# Altium footprint library RPI_B+_40Pin_Header.PcbLib: 5 footprints
Each footprint in its own frame and in the unit in brackets; x right, y up, seen from the top. Pads: shape width x height; smd on the part's side, far side on the other; paste and mask are expansions set on the pad; w line width, h text height; cw(c..) or ccw(c..) is an arc to the next point about the centre after c.
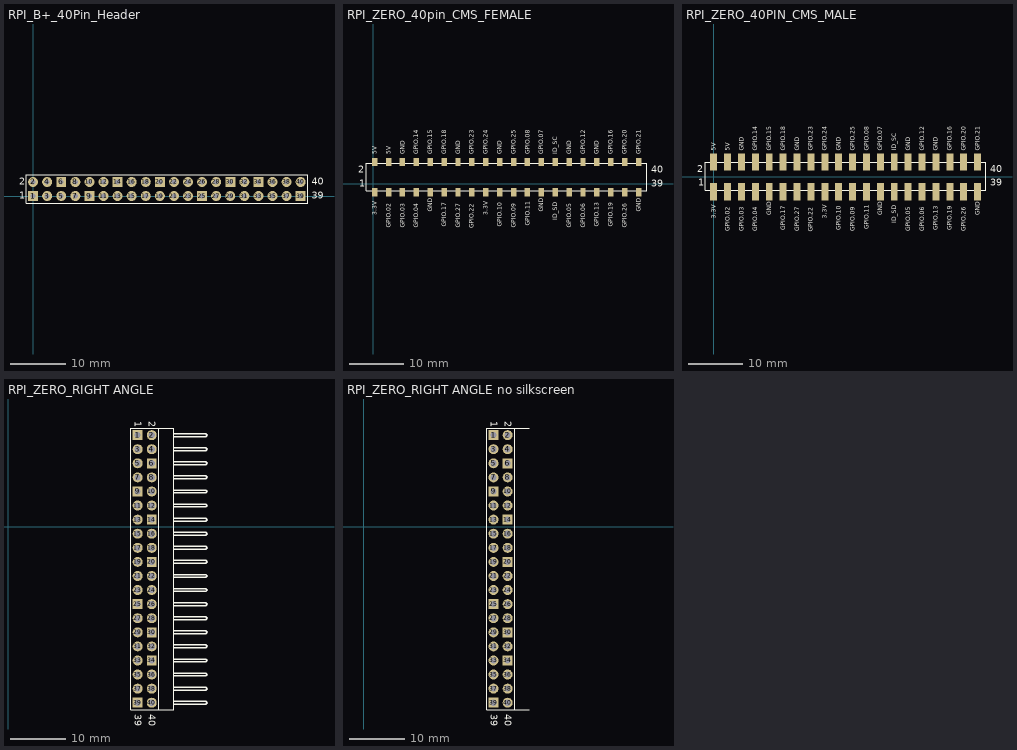
[diagram p0: the footprints below, top view; thin cyan lines are the x and y axes]

## RPI_B+_40Pin_Header [mm] "RPI_B+_40Pin_Header"
pads (40):
  rect 1.8x1.8 hole 0.9: 1(0,0) 6(5.08,2.54) 9(10.16,0) 14(15.24,2.54) 20(22.86,2.54) 25(30.48,0) 30(35.56,2.54) 34(40.64,2.54) 39(48.26,0)
  round 1.8 hole 0.9: 2(0,2.54) 3(2.54,0) 4(2.54,2.54) 5(5.08,0) 7(7.62,0) 8(7.62,2.54) 10(10.16,2.54) 11(12.7,0) 12(12.7,2.54) 13(15.24,0) 15(17.78,0) 16(17.78,2.54) 17(20.32,0) 18(20.32,2.54) 19(22.86,0) 21(25.4,0) 22(25.4,2.54) 23(27.94,0) 24(27.94,2.54) 26(30.48,2.54) 27(33.02,0) 28(33.02,2.54) 29(35.56,0) 31(38.1,0) 32(38.1,2.54) 33(40.64,0) 35(43.18,0) 36(43.18,2.54) 37(45.72,0) 38(45.72,2.54) 40(48.26,2.54)
Top Overlay:
  lines w0.2: -1.27,-1.27 -1.27,3.81 49.53,3.81 49.53,-1.27 -1.27,-1.27
  text "39" at 50.292,-0.508 h1.27
  text "40" at 50.292,2.032 h1.27
  text "2" at -2.54,2.032 h1.27
  text "1" at -2.54,-0.508 h1.27

## RPI_ZERO_40pin_CMS_FEMALE [mm]
pads (40):
  rect 1x1.51 smd: 1(0.254,-1.524) 2(0.254,3.986) 3(2.794,-1.524) 4(2.794,3.986) 5(5.334,-1.524) 6(5.334,3.986) 7(7.874,-1.524) 8(7.874,3.986) 9(10.414,-1.524) 10(10.414,3.986) 11(12.954,-1.524) 12(12.954,3.986) 13(15.494,-1.524) 14(15.494,3.986) 15(18.034,-1.524) 16(18.034,3.986) 17(20.574,-1.524) 18(20.574,3.986) 19(23.114,-1.524) 20(23.114,3.986) 21(25.654,-1.524) 22(25.654,3.986) 23(28.194,-1.524) 24(28.194,3.986) 25(30.734,-1.524) 26(30.734,3.986) 27(33.274,-1.524) 28(33.274,3.986) 29(35.814,-1.524) 30(35.814,3.986) 31(38.354,-1.524) 32(38.354,3.986) 33(40.894,-1.524) 34(40.894,3.986) 35(43.434,-1.524) 36(43.434,3.986) 37(45.974,-1.524) 38(45.974,3.986) 39(48.514,-1.524) 40(48.514,3.986)
Top Overlay:
  lines w0.2: 50.03,-1.27 -1.27,-1.27 -1.27,3.81 50.03,3.81 ; 50.038,-1.27 50.038,3.81
  text "1" at -2.54,-0.508 h1.27
  text "2" at -2.794,2.032 h1.27
  text "40" at 50.8,2.032 h1.27
  text "39" at 50.8,-0.508 h1.27
  text "GND" at 5.715,5.461 h0.8
  text "GND" at 15.875,5.461 h0.8
  text "GND" at 23.495,5.461 h0.8
  text "GND" at 36.195,5.461 h0.8
  text "GND" at 41.275,5.461 h0.8
  text "GND" at 31.115,-5.08 h0.8
  text "GND" at 48.895,-5.08 h0.8
  text "GND" at 10.795,-5.08 h0.8
  text "3.3V" at 0.635,-5.715 h0.8
  text "3.3V" at 20.955,-5.715 h0.8
  text "5V" at 0.635,5.461 h0.8
  text "5V" at 3.175,5.461 h0.8
  text "GPIO.14" at 8.255,5.461 h0.8
  text "GPIO.15" at 10.795,5.461 h0.8
  text "GPIO.18" at 13.335,5.461 h0.8
  text "GPIO.23" at 18.415,5.461 h0.8
  text "GPIO.24" at 20.955,5.461 h0.8
  text "GPIO.25" at 26.035,5.461 h0.8
  text "GPIO.08" at 28.575,5.461 h0.8
  text "GPIO.07" at 31.115,5.461 h0.8
  text "ID_SC" at 33.655,5.461 h0.8
  text "GPIO.12" at 38.735,5.461 h0.8
  text "GPIO.16" at 43.815,5.461 h0.8
  text "GPIO.20" at 46.355,5.461 h0.8
  text "GPIO.21" at 48.895,5.461 h0.8
  text "GPIO.02" at 3.175,-8.001 h0.8
  text "GPIO.03" at 5.715,-8.001 h0.8
  text "GPIO.04" at 8.255,-8.001 h0.8
  text "GPIO.17" at 13.335,-7.874 h0.8
  text "GPIO.27" at 15.875,-8.001 h0.8
  text "GPIO.22" at 18.415,-8.128 h0.8
  text "GPIO.10" at 23.495,-7.874 h0.8
  text "GPIO.09" at 26.035,-8.001 h0.8
  text "GPIO.11" at 28.575,-7.62 h0.8
  text "ID_SD" at 33.655,-6.604 h0.8
  text "GPIO.05" at 36.195,-8.001 h0.8
  text "GPIO.06" at 38.735,-8.001 h0.8
  text "GPIO.13" at 41.275,-7.874 h0.8
  text "GPIO.19" at 43.815,-7.874 h0.8
  text "GPIO.26" at 46.355,-8.001 h0.8

## RPI_ZERO_40PIN_CMS_MALE [mm]
pads (40):
  rect 1.27x3.18 smd: 1(0,-2.73) 2(0,2.73) 3(2.54,-2.73) 4(2.54,2.73) 5(5.08,-2.73) 6(5.08,2.73) 7(7.62,-2.73) 8(7.62,2.73) 9(10.16,-2.73) 10(10.16,2.73) 11(12.7,-2.73) 12(12.7,2.73) 13(15.24,-2.73) 14(15.24,2.73) 15(17.78,-2.73) 16(17.78,2.73) 17(20.32,-2.73) 18(20.32,2.73) 19(22.86,-2.73) 20(22.86,2.73) 21(25.4,-2.73) 22(25.4,2.73) 23(27.94,-2.73) 24(27.94,2.73) 25(30.48,-2.73) 26(30.48,2.73) 27(33.02,-2.73) 28(33.02,2.73) 29(35.56,-2.73) 30(35.56,2.73) 31(38.1,-2.73) 32(38.1,2.73) 33(40.64,-2.73) 34(40.64,2.73) 35(43.18,-2.73) 36(43.18,2.73) 37(45.72,-2.73) 38(45.72,2.73) 39(48.26,-2.73) 40(48.26,2.73)
Top Overlay:
  lines w0.2: 49.776,-2.413 -1.524,-2.413 -1.524,2.667 49.776,2.667 ; 49.784,-2.413 49.784,2.667
  text "GPIO.26" at 46.101,-9.906 h0.8
  text "GPIO.19" at 43.561,-9.779 h0.8
  text "GPIO.13" at 41.021,-9.779 h0.8
  text "GPIO.06" at 38.481,-9.906 h0.8
  text "GPIO.05" at 35.941,-9.906 h0.8
  text "ID_SD" at 33.401,-8.509 h0.8
  text "GPIO.11" at 28.321,-9.525 h0.8
  text "GPIO.09" at 25.781,-9.906 h0.8
  text "GPIO.10" at 23.241,-9.779 h0.8
  text "GPIO.22" at 18.161,-10.033 h0.8
  text "GPIO.27" at 15.621,-9.906 h0.8
  text "GPIO.17" at 13.081,-9.779 h0.8
  text "GPIO.04" at 8.001,-9.906 h0.8
  text "GPIO.03" at 5.461,-9.906 h0.8
  text "GPIO.02" at 2.921,-9.906 h0.8
  text "GPIO.21" at 48.641,4.826 h0.8
  text "GPIO.20" at 46.101,4.826 h0.8
  text "GPIO.16" at 43.561,4.826 h0.8
  text "GPIO.12" at 38.481,4.826 h0.8
  text "ID_SC" at 33.401,4.826 h0.8
  text "GPIO.07" at 30.861,4.826 h0.8
  text "GPIO.08" at 28.321,4.826 h0.8
  text "GPIO.25" at 25.781,4.826 h0.8
  text "GPIO.24" at 20.701,4.826 h0.8
  text "GPIO.23" at 18.161,4.826 h0.8
  text "GPIO.18" at 13.081,4.826 h0.8
  text "GPIO.15" at 10.541,4.826 h0.8
  text "GPIO.14" at 8.001,4.826 h0.8
  text "5V" at 2.921,4.826 h0.8
  text "5V" at 0.381,4.826 h0.8
  text "3.3V" at 20.701,-7.62 h0.8
  text "3.3V" at 0.381,-7.62 h0.8
  text "GND" at 10.541,-6.985 h0.8
  text "GND" at 48.641,-6.985 h0.8
  text "GND" at 30.861,-6.985 h0.8
  text "GND" at 41.021,4.826 h0.8
  text "GND" at 35.941,4.826 h0.8
  text "GND" at 23.241,4.826 h0.8
  text "GND" at 15.621,4.826 h0.8
  text "GND" at 5.461,4.826 h0.8
  text "39" at 50.546,-1.651 h1.27
  text "40" at 50.546,0.889 h1.27
  text "2" at -3.048,0.889 h1.27
  text "1" at -2.794,-1.651 h1.27

## RPI_ZERO_RIGHT ANGLE [mm]
pads (40):
  rect 1.8x1.8 hole 1.1: 1(23.368,16.51) 6(25.908,11.43) 9(23.368,6.35) 14(25.908,1.27) 20(25.908,-6.35) 25(23.368,-13.97) 30(25.908,-19.05) 34(25.908,-24.13) 39(23.368,-31.75)
  round 1.8 hole 1.1: 2(25.908,16.51) 3(23.368,13.97) 4(25.908,13.97) 5(23.368,11.43) 7(23.368,8.89) 8(25.908,8.89) 10(25.908,6.35) 11(23.368,3.81) 12(25.908,3.81) 13(23.368,1.27) 15(23.368,-1.27) 16(25.908,-1.27) 17(23.368,-3.81) 18(25.908,-3.81) 19(23.368,-6.35) 21(23.368,-8.89) 22(25.908,-8.89) 23(23.368,-11.43) 24(25.908,-11.43) 26(25.908,-13.97) 27(23.368,-16.51) 28(25.908,-16.51) 29(23.368,-19.05) 31(23.368,-21.59) 32(25.908,-21.59) 33(23.368,-24.13) 35(23.368,-26.67) 36(25.908,-26.67) 37(23.368,-29.21) 38(25.908,-29.21) 40(25.908,-31.75)
Top Overlay:
  lines w0.2: 24.765,-33.02 29.845,-33.02 29.845,17.78 24.765,17.78 ; 22.098,-33.02 22.098,17.78 27.178,17.78 27.178,-33.02 22.098,-33.02
  lines w0.254: 29.972,-32.004 35.687,-32.004 35.941,-31.75 35.687,-31.496 29.972,-31.496 ; 29.972,-29.464 35.687,-29.464 35.941,-29.21 35.687,-28.956 29.972,-28.956 ; 29.972,-26.924 35.687,-26.924 35.941,-26.67 35.687,-26.416 29.972,-26.416 ; 29.972,-24.384 35.687,-24.384 35.941,-24.13 35.687,-23.876 29.972,-23.876 ; 29.972,-21.844 35.687,-21.844 35.941,-21.59 35.687,-21.336 29.972,-21.336 ; 29.972,-19.304 35.687,-19.304 35.941,-19.05 35.687,-18.796 29.972,-18.796 ; 29.972,-16.764 35.687,-16.764 35.941,-16.51 35.687,-16.256 29.972,-16.256 ; 29.972,-14.224 35.687,-14.224 35.941,-13.97 35.687,-13.716 29.972,-13.716 ; 29.972,-11.684 35.687,-11.684 35.941,-11.43 35.687,-11.176 29.972,-11.176 ; 29.972,-9.144 35.687,-9.144 35.941,-8.89 35.687,-8.636 29.972,-8.636 ; 29.972,-6.604 35.687,-6.604 35.941,-6.35 35.687,-6.096 29.972,-6.096 ; 29.972,-4.064 35.687,-4.064 35.941,-3.81 35.687,-3.556 29.972,-3.556 ; 29.972,-1.524 35.687,-1.524 35.941,-1.27 35.687,-1.016 29.972,-1.016 ; 29.972,1.016 35.687,1.016 35.941,1.27 35.687,1.524 29.972,1.524 ; 29.972,3.556 35.687,3.556 35.941,3.81 35.687,4.064 29.972,4.064 ; 29.972,6.096 35.687,6.096 35.941,6.35 35.687,6.604 29.972,6.604 ; 29.972,8.636 35.687,8.636 35.941,8.89 35.687,9.144 29.972,9.144 ; 29.972,11.176 35.687,11.176 35.941,11.43 35.687,11.684 29.972,11.684 ; 29.972,13.716 35.687,13.716 35.941,13.97 35.687,14.224 29.972,14.224 ; 29.972,16.256 35.687,16.256 35.941,16.51 35.687,16.764 29.972,16.764
  text "1" at 22.86,19.05 h1.27
  text "2" at 25.4,19.05 h1.27
  text "40" at 25.4,-33.782 h1.27
  text "39" at 22.86,-33.782 h1.27

## RPI_ZERO_RIGHT ANGLE no silkscreen [mm]
pads (40):
  rect 1.8x1.8 hole 1.1: 1(23.368,16.51) 6(25.908,11.43) 9(23.368,6.35) 14(25.908,1.27) 20(25.908,-6.35) 25(23.368,-13.97) 30(25.908,-19.05) 34(25.908,-24.13) 39(23.368,-31.75)
  round 1.8 hole 1.1: 2(25.908,16.51) 3(23.368,13.97) 4(25.908,13.97) 5(23.368,11.43) 7(23.368,8.89) 8(25.908,8.89) 10(25.908,6.35) 11(23.368,3.81) 12(25.908,3.81) 13(23.368,1.27) 15(23.368,-1.27) 16(25.908,-1.27) 17(23.368,-3.81) 18(25.908,-3.81) 19(23.368,-6.35) 21(23.368,-8.89) 22(25.908,-8.89) 23(23.368,-11.43) 24(25.908,-11.43) 26(25.908,-13.97) 27(23.368,-16.51) 28(25.908,-16.51) 29(23.368,-19.05) 31(23.368,-21.59) 32(25.908,-21.59) 33(23.368,-24.13) 35(23.368,-26.67) 36(25.908,-26.67) 37(23.368,-29.21) 38(25.908,-29.21) 40(25.908,-31.75)
Top Overlay:
  lines w0.2: 24.765,-33.02 29.845,-33.02 ; 24.765,17.78 29.845,17.78 ; 22.098,-33.02 27.178,-33.02 27.178,17.78 22.098,17.78 22.098,-33.02
  text "39" at 22.86,-33.782 h1.27
  text "40" at 25.4,-33.782 h1.27
  text "2" at 25.4,19.05 h1.27
  text "1" at 22.86,19.05 h1.27